# Altium footprint library IOBoard2.PcbLib: 17 footprints (part 1 of 2)
Each footprint in its own frame and in the unit in brackets; x right, y up, seen from the top. Pads: shape width x height; smd on the part's side, far side on the other; paste and mask are expansions set on the pad; w line width, h text height; cw(c..) or ccw(c..) is an arc to the next point about the centre after c.
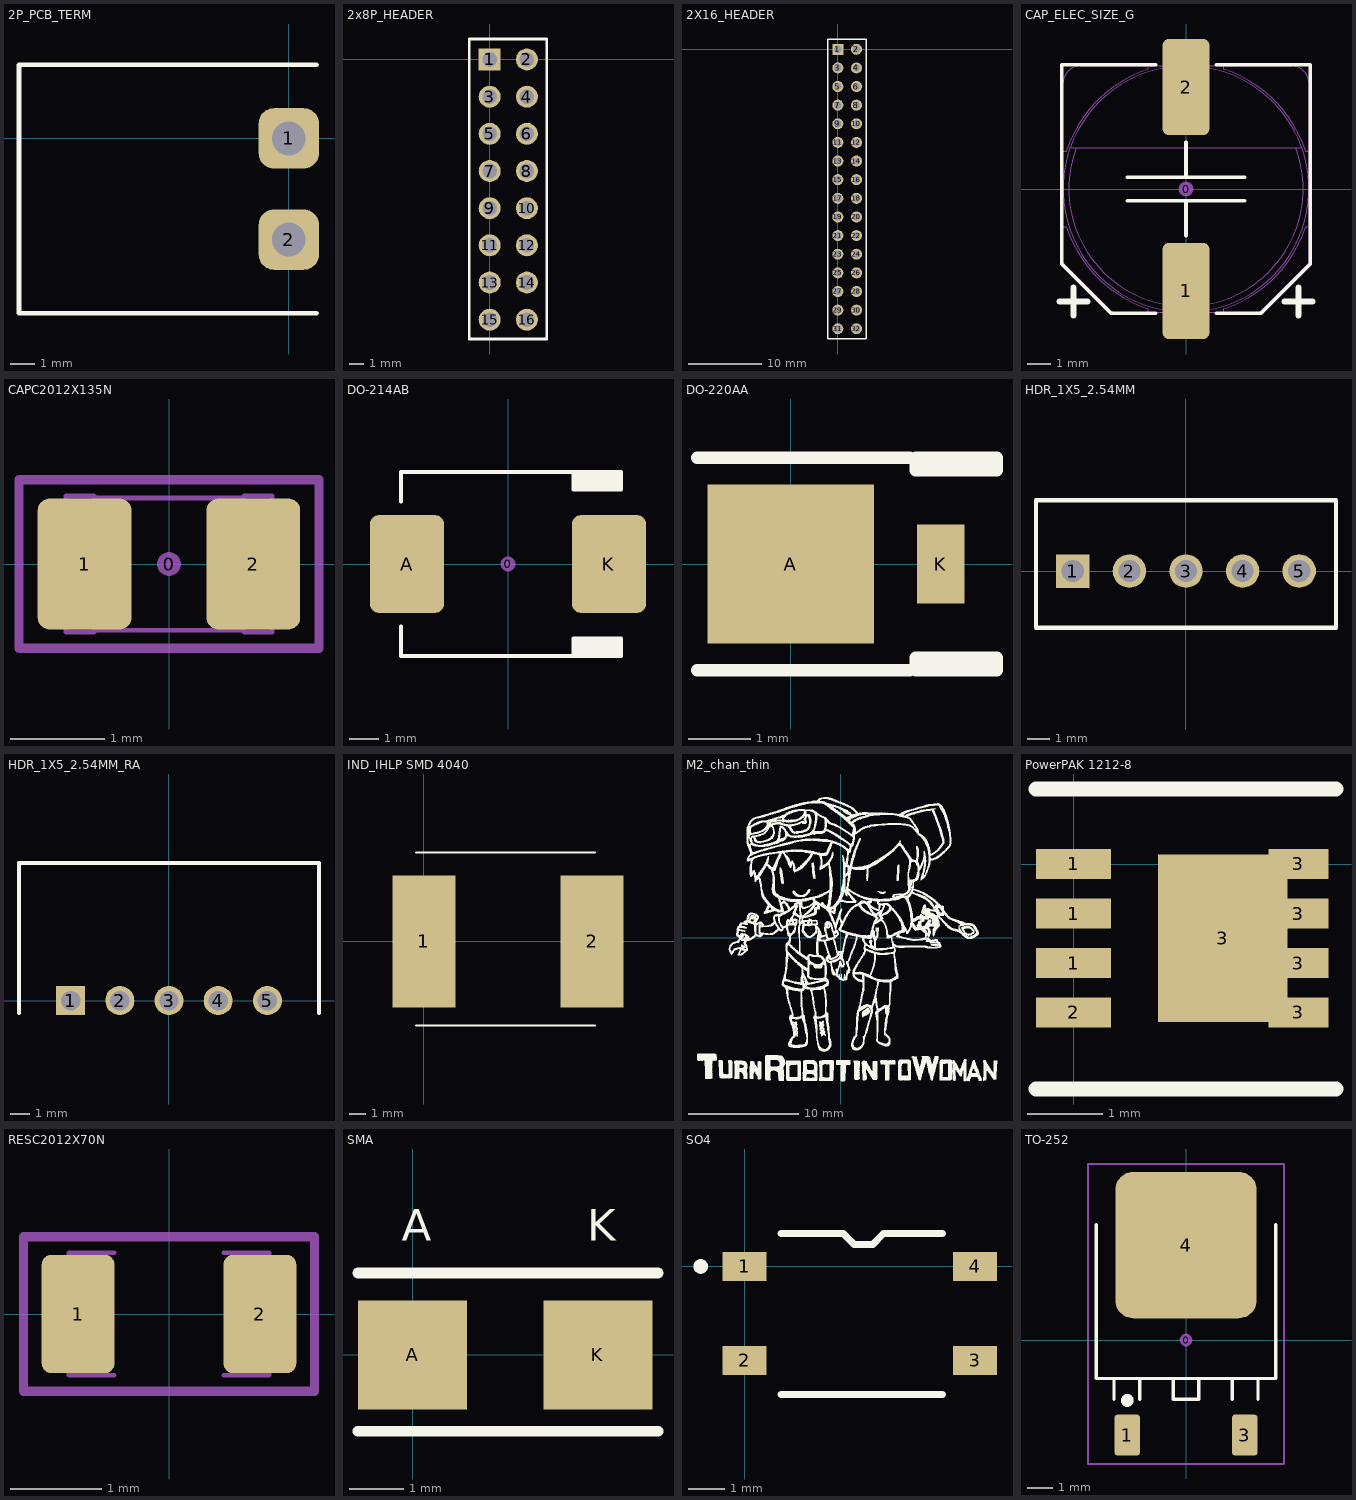
[diagram p0: the footprints below, top view; thin cyan lines are the x and y axes]

## 2P_PCB_TERM [mm]
pads (2):
  rrect50% 2.5x2.5 hole 1.4 mask+0.102: 1(0,0) 2(0,-4.191)
Top Overlay:
  lines w0.2: 1.143,-7.239 -0.889,-7.239 -11.176,-7.239 -11.176,3.048 1.143,3.048

## 2x8P_HEADER [mm]
pads (16):
  rect 1.5x1.5 hole 1 mask+0.102: 1(0,0)
  round 1.5 hole 1 mask+0.102: 2(2.54,0) 3(0,-2.54) 4(2.54,-2.54) 5(0,-5.08) 6(2.54,-5.08) 7(0,-7.62) 8(2.54,-7.62) 9(0,-10.16) 10(2.54,-10.16) 11(0,-12.7) 12(2.54,-12.7) 13(0,-15.24) 14(2.54,-15.24) 15(0,-17.78) 16(2.54,-17.78)
Top Overlay:
  lines w0.2: -1.4,-19.1 3.9,-19.1 3.9,1.4 -1.4,1.4 -1.4,-19.1
3D body "Pin Header 2x8 TH Pitch 2.54mm.stp": height 9.6, standoff -3.1, extent -1.27,-19.05 3.81,1.27

## 2X16_HEADER [mm]
pads (32):
  rect 1.5x1.5 hole 1 mask+0.102: 1(0,0)
  round 1.5 hole 1 mask+0.102: 2(2.54,0) 3(0,-2.54) 4(2.54,-2.54) 5(0,-5.08) 6(2.54,-5.08) 7(0,-7.62) 8(2.54,-7.62) 9(0,-10.16) 10(2.54,-10.16) 11(0,-12.7) 12(2.54,-12.7) 13(0,-15.24) 14(2.54,-15.24) 15(0,-17.78) 16(2.54,-17.78) 17(0,-20.32) 18(2.54,-20.32) 19(0,-22.86) 20(2.54,-22.86) 21(0,-25.4) 22(2.54,-25.4) 23(0,-27.94) 24(2.54,-27.94) 25(0,-30.48) 26(2.54,-30.48) 27(0,-33.02) 28(2.54,-33.02) 29(0,-35.56) 30(2.54,-35.56) 31(0,-38.1) 32(2.54,-38.1)
Top Overlay:
  lines w0.2: -1.4,-39.5 -1.4,1.4 3.9,1.4 3.9,-39.5 -1.4,-39.5
3D body "Pin Header 2x16 TH Pitch 2.54mm.stp": height 9.5, standoff -3.2, extent -1.27,-39.37 3.81,1.27

## CAP_ELEC_SIZE_G [mm]
pads (3):
  round 0.635 on Mech15: 0(0,0)
  rrect25% 2x4.1 smd: 1(0,-4.35) 2(0,4.35)
Top Overlay:
  lines w0.152: -2.5,-0.5 2.5,-0.5 ; -2.5,0.5 2.5,0.5 ; -1.3,-5.3 -3.2,-5.3 -5.3,-3.2 -5.3,5.3 -1.3,5.3 ; 0,-2 0,-0.5 ; 0,0.5 0,2 ; 1.3,-5.3 3.2,-5.3 5.3,-3.2 5.3,5.3 1.3,5.3
  lines w0.254: -5.4,-4.8 -4.2,-4.8 ; -4.8,-5.4 -4.8,-4.2 ; 4.2,-4.8 5.4,-4.8 ; 4.8,-5.4 4.8,-4.2
Mechanical 13:
  lines w0.05: -5.25,-1.601 -5.105,-1.601 ccw(c0,0) -1.601,-5.105 -1.601,-5.25 ; -5.25,1.601 -5.105,1.601 cw(c0,0) -1.601,5.105 -1.601,5.25 ; -4.948,1.75 cw(c0,0) 4.948,1.75 ; -4.684,1.75 ccw(c0,0) 4.684,1.75 ; -0.45,-5.25 -0.45,-6 0.45,-6 0.45,-5.25 ; -0.45,5.25 -0.45,6 0.45,6 0.45,5.25 ; 1.601,-5.25 1.601,-5.105 ccw(c0,0) 5.105,-1.601 5.25,-1.601 ; 1.601,5.25 1.601,5.105 cw(c0,0) 5.105,1.601 5.25,1.601 ; -5.25,-3.15 -5.25,4.5 cw(c-4.5,4.5) -4.5,5.25 4.5,5.25 cw(c4.5,4.5) 5.25,4.5 5.25,-3.15 3.15,-5.25 -3.15,-5.25 -5.25,-3.15 ; -4.95,1.75 ccw(c0,0) 4.95,1.75 -4.95,1.75
3D body "CAP Alum Elec Size G.STEP": height 10.5, standoff 0, extent -5.25,-6 5.25,6

## CAPC2012X135N [mm]
pads (3):
  round 0.254 on Mech15: 0(0,0)
  rrect25% 1x1.4 smd: 1(-0.9,0) 2(0.9,0)
Mechanical 13:
  lines w0.05: -0.8,-0.705 0.8,-0.705 ; -0.8,0.705 0.8,0.705 ; -1.1,-0.725 -1.1,0.725 -0.8,0.725 -0.8,-0.725 -1.1,-0.725 ; 0.8,-0.725 1.1,-0.725 1.1,0.725 0.8,0.725 0.8,-0.725
Mechanical 15:
  lines w0.1: -1.6,-0.9 -1.6,0.9 1.6,0.9 1.6,-0.9 -1.6,-0.9
3D body "CAP_0805.STEP": height 1.34, standoff -0.01, extent -1.1,-0.725 1.1,0.725

## DO-214AB [mm]
pads (3):
  round 0.508 on Mech15: 0(0,0)
  rrect25% 2.5x3.3 smd: A(-3.4,0) K(3.4,0)
Top Overlay:
  rectangle: 2.2,2.5 3.8,3.1
  rectangle: 2.2,-3.1 3.8,-2.5
  lines w0.127: -3.6,-2.1 -3.6,-3.1 3.8,-3.1 3.8,-2.5 2.2,-2.5 2.2,-3.1 ; -3.6,2.1 -3.6,3.1 3.8,3.1 3.8,2.5 2.2,2.5 2.2,3.1
3D body: height 2.62, standoff 0.01, extent -3.975,-2.975 4.05,2.975

## DO-220AA [mm]
pads (2):
  rect 2.67x2.54 smd mask+0.102: A(0,0)
  rect 0.762x1.27 smd mask+0.102: K(2.4,0)
Top Overlay:
  lines w0.2: -1.5,-1.7 1.9,-1.7 ; -1.5,1.7 1.9,1.7 ; 2,1.5 3.3,1.5 ; 2,1.5 2,1.7 3.3,1.7 3.3,1.5 ; 2,1.5 3.3,1.5 ; 2,-1.7 2,-1.5 3.3,-1.5 3.3,-1.7 3.1,-1.7 2,-1.7
3D body "User Library-DO-220AA.STEP": height 1.15, standoff 0, extent -1.256,-1.17 2.673,1.137

## HDR_1X5_2.54MM [mm]
pads (5):
  rect 1.5x1.5 hole 1 mask+0.102: 1(-5.08,0)
  round 1.5 hole 1 mask+0.102: 2(-2.54,0) 3(0,0) 4(2.54,0) 5(5.08,0)
Top Overlay:
  lines w0.2: -6.731,-2.54 -6.731,3.175 6.731,3.175 6.731,-2.54 -6.731,-2.54
3D body "Pin Header 1x5 TH Pitch 2.54mm.stp": height 9.5, standoff -3.2, extent -6.35,-1.27 6.35,1.27

## HDR_1X5_2.54MM_RA [mm]
pads (5):
  rect 1.5x1.5 hole 1 mask+0.102: 1(-5.08,0)
  round 1.5 hole 1 mask+0.102: 2(-2.54,0) 3(0,0) 4(2.54,0) 5(5.08,0)
Top Overlay:
  lines w0.2: -7.747,-0.635 -7.747,7.112 7.747,7.112 7.747,-0.635
3D body "Header 5 pin.STEP": height 5.95, standoff -2.55, extent -7.62,-0.298 7.62,6.902

## IND_IHLP SMD 4040 [mm]
pads (2):
  rect 3.8x8 smd mask+0.102: 1(0,0) 2(10.2,0)
Top Overlay:
  lines w0.1: -0.5,-5.1 10.4,-5.1 ; -0.5,5.4 10.4,5.4
3D body "IHLP_SMD_4040.stp": height 3.88, standoff 0, extent -0.352,-4.961 10.271,5.255

## M2_chan_thin [mm]
Top Overlay:
  drawing of 14718 lines, arcs and shapes, not listed

## PowerPAK 1212-8 [mm]
pads (9):
  rect 1x0.4 smd mask+0.102: 1(0,-1.32) 1(0,-0.66) 1(0,0) 2(0,-1.98)
  rect 1.725x2.235 smd mask+0.102: 3(1.99,-0.99)
  rect 0.8x0.4 smd mask+0.102: 3(3,-1.98) 3(3,-1.32) 3(3,-0.66) 3(3,0)
Top Overlay:
  lines w0.2: -0.5,-3 3.5,-3 ; -0.5,1 3.5,1
3D body "PowerPAK 1212-8 Single Pad.step": height 1.06, standoff 0.02, extent -0.275,-2.775 3.275,0.775

## RESC2012X70N [mm]
pads (2):
  rrect25% 0.8x1.3 smd: 1(-1,0) 2(1,0)
Mechanical 13:
  lines w0.05: -0.6,-0.675 -1.1,-0.675 -1.1,0.675 -0.6,0.675 ; 0.6,-0.675 1.1,-0.675 1.1,0.675 0.6,0.675
Mechanical 15:
  lines w0.1: -1.6,-0.85 1.6,-0.85 1.6,0.85 -1.6,0.85 -1.6,-0.85
3D body "RES 0805 (2012 metric).STEP": height 0.69, standoff -0.01, extent -1.1,-0.675 1.1,0.675

## SMA [mm]
pads (2):
  rect 2x2 smd mask+0.102: A(0,0) K(3.4,0)
Top Overlay:
  lines w0.2: -1,-1.4 4.5,-1.4 ; -1,1.5 4.5,1.5
  text "K" at 3.2,1.9 h1
  text "A" at -0.2,1.9 h1
3D body "Diode SMA.stp": height 2.41, standoff 0, extent -0.88,-1.36 4.4,1.56

## SO4 [mm]
pads (4):
  rect 1.2x0.8 smd: 1(0,0) 2(0,-2.57) 3(6.3,-2.57) 4(6.3,0)
Top Overlay:
  circle w0.2: c-1.2,0 r0.1
  lines w0.2: 1,-3.5 5.4,-3.5 ; 1,0.9 2.7,0.9 3,0.6 3.5,0.6 3.8,0.9 5.4,0.9
3D body "SO64P.STEP": height 2.7, standoff 0, extent -0.3,-3.1 6.7,0.5

## TO-252 [mm]
pads (4):
  round 0.5 on Mech15: 0(0,0)
  rrect25% 1x1.6 smd: 1(-2.285,-3.7) 3(2.285,-3.7)
  rrect25% 5.5x5.7 smd: 4(0,3.7)
Top Overlay:
  circle w0.25: c-2.285,-2.35 r0.125
  lines w0.127: -3.5,4.5 -3.5,-1.5 3.5,-1.5 3.5,4.5 ; -2.8,-2.3 -2.8,-1.5 -1.8,-1.5 -1.8,-2.3 ; 1.8,-2.3 1.8,-1.5 2.8,-1.5 2.8,-2.3 ; -0.5,-2.3 0.5,-2.3 0.5,-1.5 -0.5,-1.5 -0.5,-2.3
Mechanical 15:
  lines w0.076: -3.81,-4.826 3.81,-4.826 3.81,6.858 -3.81,6.858 -3.81,-4.826
3D body "DPAK.stp": height 2.31, standoff 0, extent -3.3,-3.951 3.3,5.762